# Altium footprint library Capacitor SMD.PcbLib: 19 footprints (part 2 of 2)
Each footprint in its own frame and in the unit in brackets; x right, y up, seen from the top. Pads: shape width x height; smd on the part's side, far side on the other; paste and mask are expansions set on the pad; w line width, h text height; cw(c..) or ccw(c..) is an arc to the next point about the centre after c.
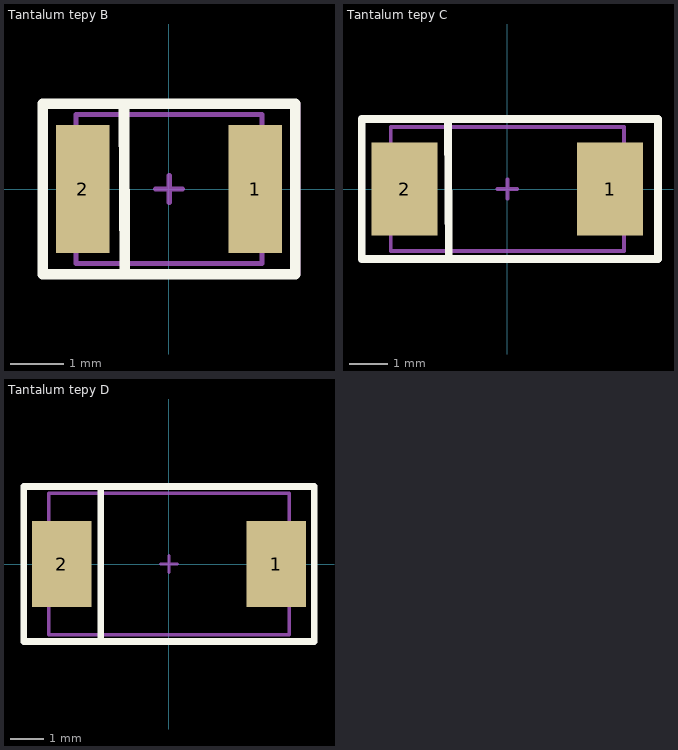
[diagram p1: the footprints below, top view; thin cyan lines are the x and y axes]

## Tantalum tepy B [mm]
pads (2):
  rect 1x2.4 smd: 1(1.621,0) 2(-1.621,0)
Top Overlay:
  lines w0.2: -0.847,1.575 -0.832,-1.575 ; -2.375,-1.6 -2.375,1.6 2.375,1.6 2.375,-1.6 -2.375,-1.6
Top Assy:
  lines w0.1: -1.75,-1.4 1.75,-1.4 1.75,1.4 -1.75,1.4 -1.75,-1.4
Border:
  lines w0.1: -0.248,0 0.252,0 ; 0.002,-0.25 0.002,0.25 ; -2.375,-1.6 2.425,-1.6 2.425,1.6 -2.375,1.6 -2.375,-1.6
3D body: height 2.15, standoff -2.15, extent -1.129,0 -1.129,0
3D body "User Library-CaseB_3528-21.step": height 1.9, standoff 0, extent -1.75,-1.4 1.75,1.4

## Tantalum tepy C [mm]
pads (2):
  rect 1.7x2.4 smd: 1(2.644,0) 2(-2.644,0)
Top Overlay:
  lines w0.2: -1.525,1.75 -1.508,-1.8 ; -3.75,-1.8 -3.75,1.8 3.875,1.8 3.875,-1.8 -3.75,-1.8
Top Assy:
  lines w0.1: -3,-1.6 3,-1.6 3,1.6 -3,1.6 -3,-1.6
Border:
  lines w0.1: -0.25,0 0.25,0 ; 0,-0.25 0,0.25 ; -3.75,-1.8 3.875,-1.8 3.875,1.8 -3.75,1.8 -3.75,-1.8
3D body: height 2.15, standoff -2.15, extent -0.106,0 -0.106,0
3D body "User Library-CaseC_6032-28.step": height 2.5, standoff 0, extent -3,-1.6 3,1.6

## Tantalum tepy D [mm]
pads (2):
  rect 1.8x2.6 smd: 1(3.25,0) 2(-3.25,0)
Top Overlay:
  lines w0.2: -2.075,-2.25 -2.075,2.35 ; -4.4,-2.35 -4.4,2.35 4.4,2.35 4.4,-2.35 -4.4,-2.35
Top Assy:
  lines w0.1: -3.65,-2.15 3.65,-2.15 3.65,2.15 -3.65,2.15 -3.65,-2.15
Border:
  lines w0.1: -0.25,0 0.25,0 ; 0,-0.25 0,0.25 ; -4.4,-2.35 -4.4,2.35 4.4,2.35 4.4,-2.35 -4.4,-2.35
3D body "User Library-CaseD_7343-31.step": height 2.8, standoff 0, extent -3.65,-2.15 3.65,2.15